# Altium footprint library Connecotrs.PcbLib: 3 footprints
Each footprint in its own frame and in the unit in brackets; x right, y up, seen from the top. Pads: shape width x height; smd on the part's side, far side on the other; paste and mask are expansions set on the pad; w line width, h text height; cw(c..) or ccw(c..) is an arc to the next point about the centre after c.
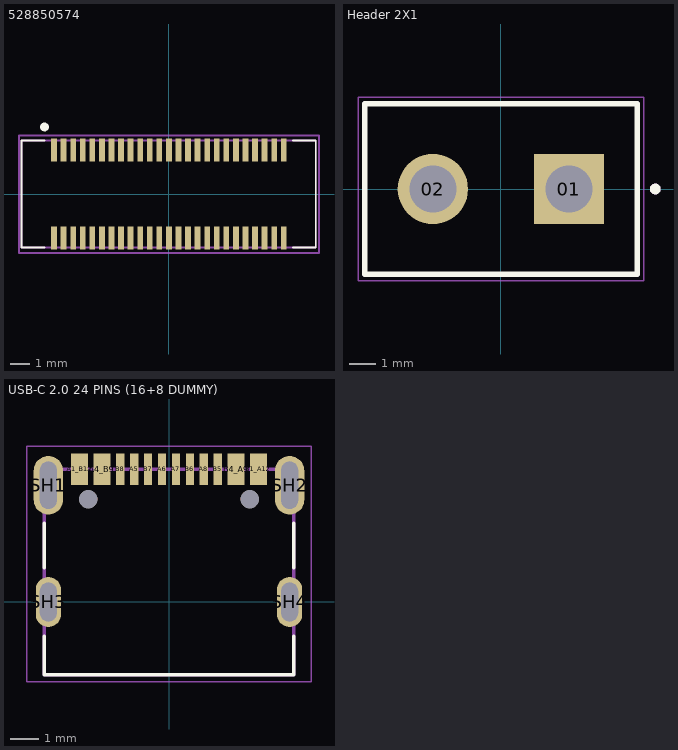
[diagram p0: the footprints below, top view; thin cyan lines are the x and y axes]

## 528850574 [mm] "Connector 50 pins"
pads (50):
  rect 0.3x1.2 smd: 1(-6,2.3) 2(-5.5,2.3) 3(-5,2.3) 4(-4.5,2.3) 5(-4,2.3) 6(-3.5,2.3) 7(-3,2.3) 8(-2.5,2.3) 9(-2,2.3) 10(-1.5,2.3) 11(-1,2.3) 12(-0.5,2.3) 13(0,2.3) 14(0.5,2.3) 15(1,2.3) 16(1.5,2.3) 17(2,2.3) 18(2.5,2.3) 19(3,2.3) 20(3.5,2.3) 21(4,2.3) 22(4.5,2.3) 23(5,2.3) 24(5.5,2.3) 25(6,2.3) 26(6,-2.3) 27(5.5,-2.3) 28(5,-2.3) 29(4.5,-2.3) 30(4,-2.3) 31(3.5,-2.3) 32(3,-2.3) 33(2.5,-2.3) 34(2,-2.3) 35(1.5,-2.3) 36(1,-2.3) 37(0.5,-2.3) 38(0,-2.3) 39(-0.5,-2.3) 40(-1,-2.3) 41(-1.5,-2.3) 42(-2,-2.3) 43(-2.5,-2.3) 44(-3,-2.3) 45(-3.5,-2.3) 46(-4,-2.3) 47(-4.5,-2.3) 48(-5,-2.3) 49(-5.5,-2.3) 50(-6,-2.3)
Top Overlay:
  circle w0.254: c-6.498,3.506 r0.102
  lines w0.1: -6.5,-2.798 -7.7,-2.798 -7.7,2.802 -6.5,2.802 ; 6.47,-2.798 7.67,-2.798 7.67,2.802 6.47,2.802
Mechanical 13:
  lines w0.1: -7.696,-2.794 -7.696,2.794 7.671,2.794 7.671,-2.794 -7.696,-2.794
Mechanical 15:
  lines w0.1: -7.83,-3.078 -7.83,3.069 7.842,3.069 7.842,-3.078 -7.83,-3.078
3D body "541020504.stp": height 2.1, standoff 0, extent -7.55,-2.65 7.55,2.65

## Header 2X1 [mm]
pads (2):
  rect 2.625x2.625 hole 1.75: 01(2.54,0)
  round 2.625 hole 1.75: 02(-2.54,0)
Top Overlay:
  circle w0.2: c5.76,0 r0.1
  lines w0.2: -5.08,-3.175 5.08,-3.175 5.08,3.175 -5.08,3.175 -5.08,-3.175
Mechanical 13:
  circle w0.2: c5.76,0 r0.1
  lines w0.1: -5.08,-3.175 -5.08,3.175 5.08,3.175 5.08,-3.175 -5.08,-3.175
Mechanical 15:
  lines w0.05: -5.33,-3.425 -5.33,3.425 5.33,3.425 5.33,-3.425 -5.33,-3.425
3D body "2x1 HPM-02-01-T-S.stp": height 14.53, standoff -4.52, extent -5.08,-3.175 5.08,3.175

## USB-C 2.0 24 PINS (16+8 DUMMY) [mm]
pads (18):
  rect 0.6x1.14 smd: A1_B12(-3.2,4.75) A4_B9(-2.4,4.75) B1_A12(3.2,4.75) B4_A9(2.4,4.75)
  rect 0.3x1.14 smd: A5(-1.25,4.75) A6(-0.25,4.75) A7(0.25,4.75) A8(1.25,4.75) B5(1.75,4.75) B6(0.75,4.75) B7(-0.75,4.75) B8(-1.75,4.75)
  oval 1.05x2.1 hole 0.6 slot 1.7 at 90 deg: SH1(-4.32,4.18) SH2(4.32,4.18)
  oval 0.9x1.8 hole 0.6 slot 1.4 at 90 deg: SH3(-4.32,0) SH4(4.32,0)
  round 0.65 hole 0.65 unplated: ""(-2.89,3.68) ""(2.89,3.68)
Top Overlay:
  lines w0.127: -4.47,-1.22 -4.47,-2.6 4.47,-2.6 4.47,-1.22 ; -4.47,1.22 -4.47,2.81 ; 4.47,1.22 4.47,2.81
Mechanical 13:
  lines w0.127: -4.47,-2.6 -4.47,4.75 4.47,4.75 4.47,-2.6 -4.47,-2.6
Mechanical 15:
  lines w0.05: -5.095,-2.85 5.095,-2.85 5.095,5.57 -5.095,5.57 -5.095,-2.85
3D body "12402012E212A.STEP": height 3.25, standoff -0.91, extent -4.445,-2.565 4.495,5.035